# Altium schematic symbol library TPI_Carte_Alimentation.SchLib: 5 symbols
Pins are listed as number, name and electrical type; pins without a type are passive.

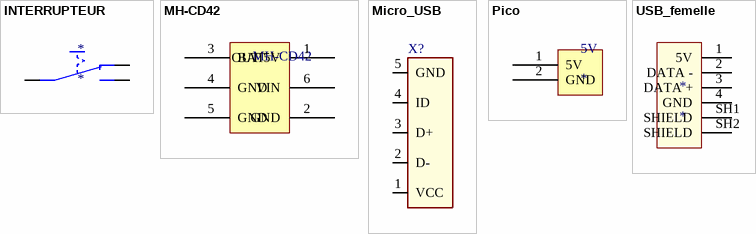
[diagram p0: symbols INTERRUPTEUR to USB_femelle]

## INTERRUPTEUR
designator *
footprint INTERRUPTEUR
pins: 1, 2, 3

## MH-CD42
designator MH-CD42  (value not drawn)
footprint MH-CD42
pins: 1 OUT 5V, 2 GND, 3 BAT, 4 GND, 5 GND, 6 VIN

## Micro_USB
designator X?  (value not drawn)
Supplier 1: Digi-Key; Supplier Part Number: 609-4613-2-ND
footprint MICRO_USB (Connecteur USB micro B)
pins: 1 VCC, 2 D-, 3 D+, 4 ID, 5 GND (power)

## Pico
designator 5V
footprint Connecteur_Batterie
pins: 1 5V, 2 GND

## USB_femelle
designator *
footprint USB_femelle
pins: 1 5V, 2 DATA -, 3 DATA +, 4 GND, SH1 SHIELD, SH2 SHIELD